# Altium schematic symbol library INA180B1IDBVR.SchLib: 1 symbol
Pins are listed as number, name and electrical type; pins without a type are passive.

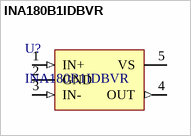
[diagram p0: symbol INA180B1IDBVR]

## INA180B1IDBVR
designator U?
/ Current Sense Amplifiers 26V, 350kHz current sense amplifier 5-SOT-23 -40 to 125, 20V/V gain /; Manufacturer: Texas Instruments; Max Supply Voltage: 5.5V; PN: INA180B1IDBVR; Footprint: SOT-23-5; Package: SOT-23-5; Supplier 1: Mouser; Supplier Part Number 1: 595-TL331QDBVRQ1; ComponentLink1Description: Datasheet; ComponentLink1URL: http://www.ti.com/general/docs/suppproductinfo.tsp?distId=26&gotoUrl=http%3A%2F%2Fwww.ti.com%2Flit%2Fgpn%2Fina180; Gain: 20V/V
footprint SOT-23-5
pins: 1 IN+ (in), 2 GND (power), 3 IN- (in), 4 OUT (out), 5 VS (power)